# Altium footprint library CN_WAGO_236-402.PcbLib: 1 footprints
Each footprint in its own frame and in the unit in brackets; x right, y up, seen from the top. Pads: shape width x height; smd on the part's side, far side on the other; paste and mask are expansions set on the pad; w line width, h text height; cw(c..) or ccw(c..) is an arc to the next point about the centre after c.
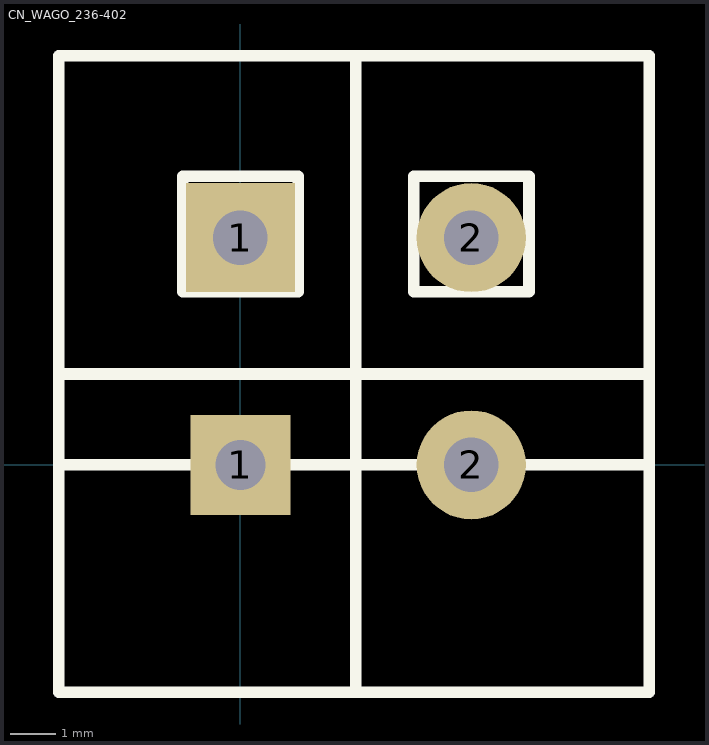
[diagram p0: the footprint, top view; thin cyan lines are the x and y axes]

## CN_WAGO_236-402 [mm]
pads (4):
  rect 2.2x2.2 hole 1.1: 1(0,0)
  rect 2.4x2.4 hole 1.2: 1(0,5)
  round 2.4 hole 1.2: 2(5.08,0) 2(5.08,5)
Top Overlay:
  lines w0.254: -4,0 9,0 ; -4,2 9,2 ; 2.54,-5 2.54,9 ; 9,8.97 9,-5 -4,-5 -4,9 9,9 ; -1.27,3.81 -1.27,6.35 1.27,6.35 1.27,3.81 -1.27,3.81 ; 3.81,3.81 3.81,6.35 6.35,6.35 6.35,3.81 3.81,3.81